# Altium footprint library PCB - POWER MODULE - MURATA MEJ1 SINGLE.PCBLIB: 1 footprints
Each footprint in its own frame and in the unit in brackets; x right, y up, seen from the top. Pads: shape width x height; smd on the part's side, far side on the other; paste and mask are expansions set on the pad; w line width, h text height; cw(c..) or ccw(c..) is an arc to the next point about the centre after c.
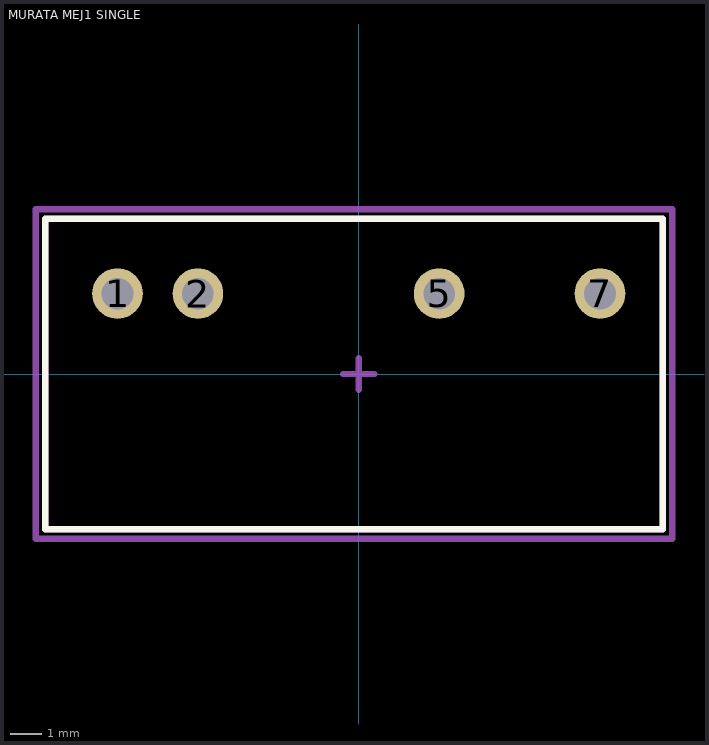
[diagram p0: the footprint, top view; thin cyan lines are the x and y axes]

## MURATA MEJ1 SINGLE [mm] "5.2kVDC Isolated 1W DC-DC Converters"
height 12.75
pads (4):
  round 1.6 hole 1: 1(-7.62,2.54) 2(-5.08,2.54) 5(2.54,2.54) 7(7.62,2.54)
Top Overlay:
  lines w0.2: -9.9,-4.9 -9.9,4.9 9.6,4.9 9.6,-4.9 -9.9,-4.9
Top Assembly:
  lines w0.2: -0.5,0 0.5,0 ; 0,-0.5 0,0.5 ; -9.9,-4.9 -9.9,4.9 9.6,4.9 9.6,-4.9 -9.9,-4.9
Top Courtyard (Mech15):
  lines w0.2: -10.2,-5.2 -10.2,5.2 9.9,5.2 9.9,-5.2 -10.2,-5.2
3D body "Murata MEJ1.step": height 12.5, standoff -4.1, extent -9.9,-4.92 9.6,4.9